# Altium schematic symbol library in3ator_LEDStrip2.SchLib: 3 symbols
Pins are listed as number, name and electrical type; pins without a type are passive.

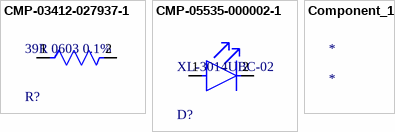
[diagram p0: symbols CMP-03412-027937-1 to Component_1]

## CMP-03412-027937-1
designator R?, comment 39R 0603 0.1%
RES SMD 39 OHM 0.1% 1/10W 0603; Manufacturer Part Number: RT0603BRD0739RL; Manufacturer: Yageo; Power Rating: 0.1W; Voltage Rating: 75V; Tolerance: 0.001; Resistance: 39Ω; Value: 39Ω; Temperature Coefficient: 25 ppm/°C; Temperature Range High: +155°C; Device Class L2: Resistors; Mouser Description: Thin Film Resistors - SMD 1/10W 39 ohm .1% 25ppm; Digikey Description: RES SMD 39 OHM 0.1% 1/10W 0603; ComponentLink2URL: http://www.yageo.com/documents/recent/PYu-RT_1-to-0.01_RoHS_L_9.pdf; Temperature Range Low: -55°C; Lead Free: Yes; Octopart: https://octopart.com/rt0603brd0739rl-yageo-1272764; Ipc Land Pattern Name: RESC16080X45; Series: RT; Temperature: -55°C to +155°C; Automotive: No; Height: 0.55mm; Device Class L1: Passive Components; Composition: Thin Film; Package: RT0603; Device Class L3: Chip SMD Resistors; ComponentLink2Description: Datasheet; Category: Res; Footprint Url: http://www.yageo.com/exep/pages/download/literatures/PYu-R_Mount_10.pdf; RoHS: TRUE
footprint FP-RT0603-IPC_C
footprint FP-RT0603-MFG
footprint FP-RT0603-IPC_A
footprint FP-RT0603-IPC_B
footprint FP-RT0603-IPC_A
pins: 1, 2

## CMP-05535-000002-1
designator D?, comment XL-3014UBC-02
LED GREEN ESS II SMD; Obsolete Part: true; Manufacturer: Panasonic; Manufacturer Part Number: LNJ337W83RA; Peak Emmision Wavelength: 575nm; Wavelength: 572nm; Reverse Voltage: 4V; Forward Current: 5mA; Forward Voltage: 1.95V; Luminous Intensity: 7.5mcd; Led Orientation: Top View; Power Dissipation: 55mW; Automotive: No; Mouser Description: LNJ337W83RA; ESS II Series Yellow-Green LED; 572 nm 1608(0603); Rectangle Lens; Temperature: -30°C to +85°C; Category: Diode; Temperature Range High: +85°C; Colour: Green; Height: 0.25mm; Device Class L2: LEDs; Device Class L3: unset; ComponentLink2Description: Datasheet; RoHS: TRUE; Package: LNJ337W83RA; Digikey Description: LED GREEN ESS II SMD; Lead Free: Yes; Ambient Temperature Range High: +85°C; ComponentLink2URL: https://industrial.panasonic.com/content/data/SC/ds/ds4/LNJ337W83RA_E.pdf; Temperature Range Low: -30°C; Octopart: https://octopart.com/lnj337w83ra-panasonic-44404387; Ambient Temperature Range Low: -30°C; Device Class L1: Optoelectronics
footprint FP-LNJ337W83RA-MFG
footprint Diode_led
footprint Diode_led
footprint Diode_led
pins: 1, 2

## Component_1
designator *